# Altium footprint library c0603.PcbLib: 1 footprints
Each footprint in its own frame and in the unit in brackets; x right, y up, seen from the top. Pads: shape width x height; smd on the part's side, far side on the other; paste and mask are expansions set on the pad; w line width, h text height; cw(c..) or ccw(c..) is an arc to the next point about the centre after c.
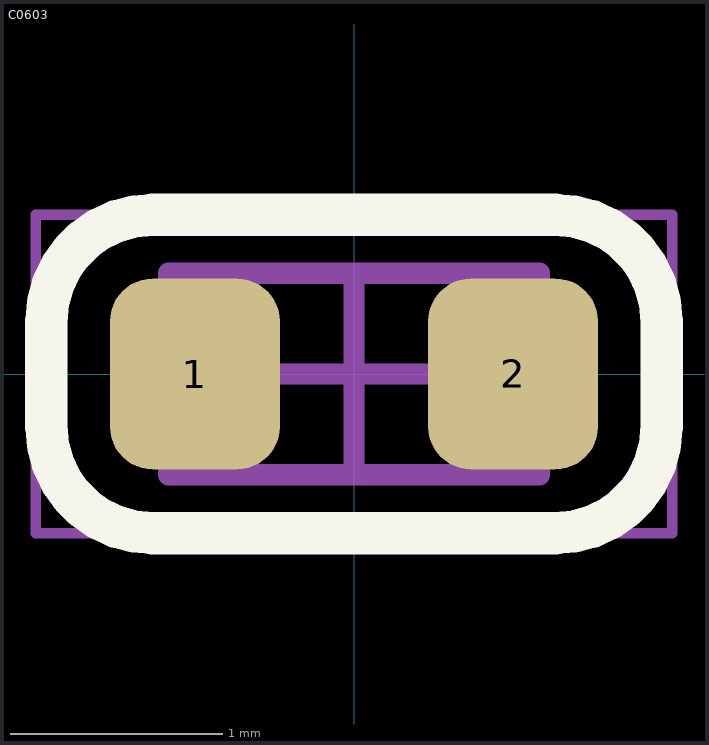
[diagram p0: the footprint, top view; thin cyan lines are the x and y axes]

## C0603 [mm] "Chip Capacitor, 2-Leads, Body 1,60x0,80mm, IPC Medium Density"
height 0.95
pads (2):
  rrect50% 0.8x0.9 smd: 1(-0.75,0) 2(0.75,0)
Top Overlay:
  lines w0.2: -1.45,-0.25 ccw(c-0.95,-0.25) -0.95,-0.75 0.95,-0.75 ccw(c0.95,-0.25) 1.45,-0.25 1.45,0.25 ccw(c0.95,0.25) 0.95,0.75 -0.95,0.75 ccw(c-0.95,0.25) -1.45,0.25 -1.45,-0.25
Top Comment:
  text ".Comment" at 1,1 h1.2
Top Designator:
  text ".Designator" at -0.5,1 h1.2
Top Component Outline:
  lines w0.1: -0.875,-0.475 -0.875,0.475 0.875,0.475 0.875,-0.475 -0.875,-0.475
Top Courtyard (Mech15):
  lines w0.05: -1.5,-0.75 -1.5,0.75 1.5,0.75 1.5,-0.75 -1.5,-0.75
  lines w0.1: -0.475,0 0.475,0 ; 0,-0.475 0,0.475
3D body "User Library-SMD CAPACITOR 0603.STEP": height 0.8, standoff 0, extent -0.8,-0.4 0.8,0.4